# Altium schematic symbol library UWRT_Schematic_Library_2020.SchLib: 205 symbols (part 2 of 4)
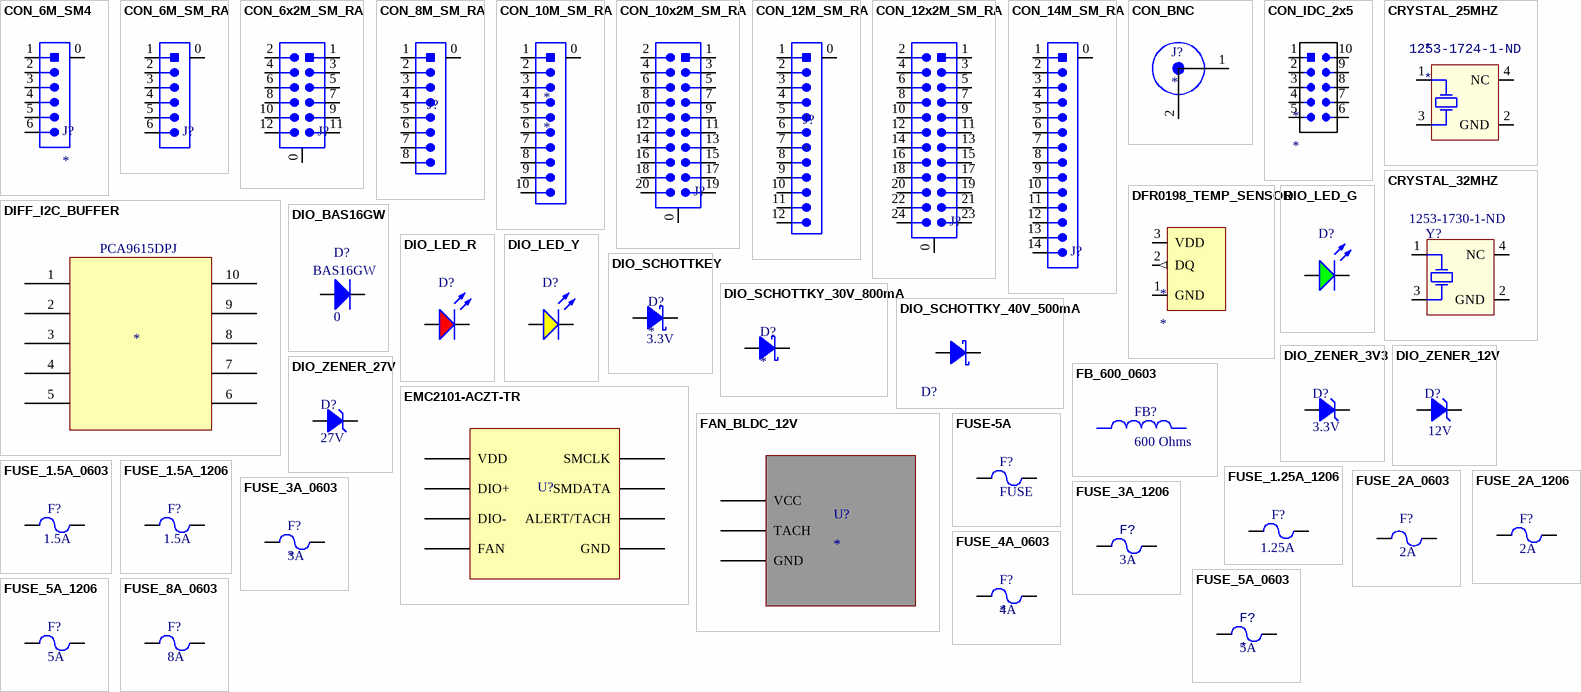
[diagram p6: symbols CON_6M_SM4 to FUSE_8A_0603]

## DIO_SCHOTTKY_40V_500mA
designator D?, comment B0540W-7-F  (value not drawn)
DIODE SCHOTTKY 40V 500MA SOD123; Manufacturer: Diodes Inc.; Manufacturer 1: Diodes Incorporated; Capacitance: 170pF; Max Junction Temp: +150°C; Value: 170pF; Peak Reverse Current: 20uA; Automotive Grade: Grade 0; Max Surge Forward Current: 5.5A; Standoff Height: 0mm; Forward Current: 0.5A; Digikey Description: DIODE SCHOTTKY 40V 500MA SOD123; ComponentLink2Description: Datasheet; Package: SOD123; Height: 1.45mm; Temperature Range High: +150°C; Mouser Description: Schottky Diodes & Rectifiers 40V 410mW; Category: Diode; Temperature: -65°C to +150°C; Reverse Voltage: 40V; Manufacturer Part Number: B0540W-7-F; Footprint Url: https://www.diodes.com/assets/Package-Files/SOD123.pdf; Octopart: https://octopart.com/b0540w-7-f-diodes+inc.-325656; Device Class L1: Discrete Semiconductors; Automotive: Yes; ComponentLink2URL: https://www.diodes.com/assets/Datasheets/ds30138.pdf; Lead Free: Yes; Temperature Range Low: -65°C; Device Class L3: Schottky Diodes; RoHS: TRUE; Max Repetitive Reverse Voltage: 40V; Device Class L2: Diodes; Supplier 1: Digi-Key; Supplier Part Number 1: B0540W-FDITR-ND; Manufacturer Part Number 1: B0540W-7-F
footprint SOD123
pins: 1, 2

## DIO_ZENER_3V3
designator D?  Working Voltage: 3.3V  (hidden comment: *)
DIODE ZENER 3.3V 200mW SOD323F; Manufacturer 1: ON Semiconductor / Fairchild; Manufacturer Part Number 1: MM3Z3V3B; Tolerance: 2%; Forward Voltage: 1V; Supplier Part Number 1: MM3Z3V3BCT-ND; Supplier 1: Digi-Key; Mount: Surface Mount; Package/Case: SOD323F
footprint DIO_ZENER_3V3 (DIODE ZENER 3.3V 200MW SOD323F)
pins: 1 Anode, 2 Cathode

## DIO_ZENER_12V
designator D?  Voltage Rating (DC): 12V  (hidden comment: *)
DIODE ZENER 12V 300mW SMD SOD-323; Manufacturer 1: ON Semiconductor; Manufacturer Part Number 1: MM3Z12VST1G; Material: Plastic; Impedance: 25R; Max Reverse Leakage Current: 100nA; Test Current: 5mA; Element Configuration: Single; ESD Protection: Yes; Max Power Dissipation: 200mW; Tolerance: 2%; Zener Current: 10mA; Forward Voltage: 900mV; Supplier 1: Digi-Key; Stock 1: 20367; Pricing 1: 1=0.13000, 10=0.11800, 25=0.11240, 100=0.04950, 250=0.04752, 500=0.03888, 1000=0.02700 (USD); RoHS: Yes; Case/Package: SOD-323-2; Number of Pins: 2; Contact Plating: Tin,Matte; Min Operating Temperature: -65°C; Max Operating Temperature: 150°C; Zener Voltage: 12V; Packaging: Tape and Reel; Package Quantity: 3000; Power Dissipation: 200mW; Voltage Tolerance: 2%; Working Voltage: 12V; Peak Reverse Current: 100nA; Power Rating: 200mW; Length: 1.8mm; Height: 1mm; Width: 1.35mm; Radiation Hardening: No; Lead Free: Lead Free; REACH SVHC: No SVHC; ComponentLink1URL: https://datasheet.ciiva.com/16292/mm3z12vst1g-16292931.pdf?src-supplier=Future+Electronics; ComponentLink1Description: https://datasheet.ciiva.com/16292/mm3z12vst1g-16292931.pdf?src-supplier=Future+Electronics; ComponentLink2URL: https://datasheet.ciiva.com/30478/0900766b8127c8bd-30478408.pdf?src-supplier=RSComponents; ComponentLink2Description: https://datasheet.ciiva.com/30478/0900766b8127c8bd-30478408.pdf?src-supplier=RSComponents; ComponentLink3URL: https://datasheet.ciiva.com/22626/1878251-22626885.pdf?src-supplier=Element14; ComponentLink3Description: https://datasheet.ciiva.com/22626/1878251-22626885.pdf?src-supplier=Element14; ComponentLink4URL: https://datasheet.ciiva.com/894/mm3z2v4st1-d-894651.pdf?src-supplier=Digi-Key; ComponentLink4Description: https://datasheet.ciiva.com/894/mm3z2v4st1-d-894651.pdf?src-supplier=Digi-Key; ComponentLink5URL: https://datasheet.ciiva.com/894/mm3z2v4st1-d-894649.pdf?src-supplier=Digi-Key; ComponentLink5Description: https://datasheet.ciiva.com/894/mm3z2v4st1-d-894649.pdf?src-supplier=Digi-Key; ComponentLink6URL: https://datasheet.ciiva.com/25928/mm3z2v4st1-d-25928489.pdf?src-supplier=Avnet+Europe; ComponentLink6Description: https://datasheet.ciiva.com/25928/mm3z2v4st1-d-25928489.pdf?src-supplier=Avnet+Europe; ComponentLink7URL: https://datasheet.ciiva.com/894/mm3z2v4st1-d-894650.pdf?src-supplier=Digi-Key; ComponentLink7Description: https://datasheet.ciiva.com/894/mm3z2v4st1-d-894650.pdf?src-supplier=Digi-Key; Supplier Part Number 1: MM3Z12VST1GOSCT-ND
footprint SOD-323
pins: 1 Anode, 2 Cathode

## DIO_ZENER_27V
designator D?  Working Voltage: 27V  (hidden comment: *)
DIODE ZENER 27V 250MW SOT23; Manufacturer 1: Nexperia USA Inc.; Manufacturer Part Number 1: BZX84-C27,215; Tolerance: 5%; Forward Voltage: 0.9V; Supplier Part Number 1: 1727-5026-2-ND; Supplier 1: Digi-Key; Mount: Surface Mount; Package/Case: SOT-23-3
footprint SOT23-3 (SOT23, 3-Leads, Body 2.90x2.30mm, Pitch 0.95mm, IPC Medium Density)
pins: 1 Anode, 3 Cathode

## EMC2101-ACZT-TR
designator U?
SMBUS FAN CONTROL WITH TEMP MONITORING; Manufacturer 1: Microchip Technology; Manufacturer Part Number 1: EMC2101-ACZT-TR; Supplier Part Number 1: EMC2101-ACZT-CT-ND; Mount: Surface Mount; Supplier 1: Digi-Key
footprint SOIC-8_SG
pins: 1 VDD, 2 DIO+, 3 DIO-, 4 FAN, 5 GND, 6 ALERT/TACH, 7 SMDATA, 8 SMCLK

## FAN_BLDC_12V
designator U?
GENERIC 12V BLDC FAN WITH INTEGRATED DRIVER AND TACHOMETER OUTPUT
pins: 1 VCC, 2 TACH, 3 GND

## FB_600_0603
designator FB?, comment 600 Ohms
FERRITE BEAD 600 OHM 0603 1LN; Manufacturer Part Number 1: BK1608HW601-T; Manufacturer 1: Taiyo Yuden; Tolerance: 25%; Value: 600R; Supplier Part Number 1: 587-1879-1-ND; Supplier 1: Digi-Key; Size/Dimension: 0.063" L x 0.032" W (1.60mm x 0.80mm); Case/Package: 0603; Mount: Surface Mount
footprint FB_600_0603 (FERRITE BEAD 600 OHM 0603 1LN)

## FUSE-5A
designator F?, comment FUSE
FUSE HOLDER RADIAL 250V 6.3A PCB
footprint FUSE (FUSE HOLDER RADIAL 250V 6.3A PCB)
pins: 1, 2

## FUSE_1.5A_0603
designator F?  Current Rating: 1.5A  (hidden comment: *)
FUSE SMD 1.5A 32V; Manufacturer 1: Littelfuse; Manufacturer Part Number 1: 046701.5NRHF; Response Time: Fast Blow; ComponentLink1URL: https://datasheet.ciiva.com/26890/getdatasheetpartid-721713-26890390.pdf?src-supplier=Verical; ComponentLink1Description: https://datasheet.ciiva.com/26890/getdatasheetpartid-721713-26890390.pdf?src-supplier=Verical; ComponentLink2URL: https://datasheet.ciiva.com/7464/467-7464069.pdf?src-supplier=Digi-Key; ComponentLink2Description: https://datasheet.ciiva.com/7464/467-7464069.pdf?src-supplier=Digi-Key; ComponentLink3URL: https://datasheet.ciiva.com/7464/467-7464072.pdf?src-supplier=Digi-Key; ComponentLink3Description: https://datasheet.ciiva.com/7464/467-7464072.pdf?src-supplier=Digi-Key; Mount: Surface Mount; Voltage Rating (AC): 32V; Voltage Rating (DC): 32V; Supplier 1: Digi-Key; Supplier Part Number 1: F5702CT-ND; Supplier Packaging 1: Cut Tape
footprint FUSE_0603 (Chip Fuse, Body 1.6x0.81mm)
pins: 1, 2

## FUSE_1.5A_1206
designator F?  Current Rating: 1.5A  (hidden comment: *)
FUSE SMD 1.5A 63V; Manufacturer 1: Littelfuse; Manufacturer Part Number 1: 046601.5NR; Fuse Type: Board Mount (Cartridge Style Excluded); DC Cold Resistance: 31mR; Power Dissipation: 157.5mW; Approvals: UL,CSA; Supplier 1: Digi-Key; Stock 1: 8989; Pricing 1: 1=0.84000, 5=0.81200, 10=0.78700, 50=0.66180, 100=0.54930, 250=0.49940, 500=0.42450, 1000=0.37455 (USD); RoHS: Yes; Mount: Surface Mount; Case/Package: 1206; Case Code (Imperial): 1206; Case Code (Metric): 3216; Housing Material: Ceramic; Min Operating Temperature: -55°C; Max Operating Temperature: 90°C; Package Quantity: 5000; Voltage Rating (AC): 63V; Voltage Rating (DC): 63V; Packaging: Cut Tape; Current: 1.5A; Length: 3.18mm; Height: 0.023inch; Width: 0.06inch; Depth: 1.52mm; ComponentLink1URL: https://datasheet.ciiva.com/7444/littelfuse-fuse-466-7444359.pdf?src-supplier=Digi-Key; ComponentLink1Description: https://datasheet.ciiva.com/7444/littelfuse-fuse-466-7444359.pdf?src-supplier=Digi-Key; ComponentLink2URL: https://datasheet.ciiva.com/7444/littelfuse-fuse-466-7444363.pdf?src-supplier=Digi-Key; ComponentLink2Description: https://datasheet.ciiva.com/7444/littelfuse-fuse-466-7444363.pdf?src-supplier=Digi-Key; ComponentLink3URL: https://datasheet.ciiva.com/7444/littelfuse-fuse-466-7444350.pdf?src-supplier=Digi-Key; ComponentLink3Description: https://datasheet.ciiva.com/7444/littelfuse-fuse-466-7444350.pdf?src-supplier=Digi-Key; Supplier Part Number 1: F1462CT-ND
footprint FUSE_1206
pins: 1, 2

## FUSE_1.25A_1206
designator F?  Current Rating: 1.25A  (hidden comment: *)
FUSE SMD 1.25A 63V; Manufacturer 1: Littelfuse; Manufacturer Part Number 1: 04661.25NRHF; Fuse Type: Board Mount (Cartridge Style Excluded); DC Cold Resistance: 59mR; Approvals: UL,CSA; Supplier 1: Digi-Key; Stock 1: 5020; Pricing 1: 1=0.84000, 5=0.81200, 10=0.78700, 50=0.66180, 100=0.54930, 250=0.49940, 500=0.42450, 1000=0.37455 (USD); RoHS: No; Mount: Surface Mount; Case/Package: 1206; Case Code (Imperial): 1206; Case Code (Metric): 3216; Min Operating Temperature: -55°C; Max Operating Temperature: 90°C; Packaging: Tape and Reel; Voltage Rating (AC): 63V; Voltage Rating (DC): 63V; ComponentLink1URL: https://www.littelfuse.com/~/media/electronics/datasheets/fuses/littelfuse_fuse_466_datasheet.pdf.pdf?src-supplier=Digi-Key; ComponentLink1Description: https://www.littelfuse.com/~/media/electronics/datasheets/fuses/littelfuse_fuse_466_datasheet.pdf.pdf?src-supplier=Digi-Key; Supplier Part Number 1: F11418CT-ND
footprint FUSE_1206
pins: 1, 2

## FUSE_2A_0603
designator F?  Current Rating: 2A  (hidden comment: *)
FUSE SMD 2A 32V; Manufacturer Part Number 1: 0467002.NRHF; Manufacturer 1: Littelfuse; Response Time: Fast Blow; ComponentLink1URL: https://datasheet.ciiva.com/303/467-303400.pdf?src-supplier=Digi-Key; ComponentLink1Description: https://datasheet.ciiva.com/303/467-303400.pdf?src-supplier=Digi-Key; ComponentLink2URL: http://datasheet.octopart.com/0467002.NRHF-Littelfuse-datasheet-32023482.pdf?src-supplier=Future+Electronics; ComponentLink2Description: http://datasheet.octopart.com/0467002.NRHF-Littelfuse-datasheet-32023482.pdf?src-supplier=Future+Electronics; ComponentLink3URL: http://datasheet.octopart.com/0467002.NRHF-Littelfuse-datasheet-136509808.pdf?src-supplier=Future+Electronics; ComponentLink3Description: http://datasheet.octopart.com/0467002.NRHF-Littelfuse-datasheet-136509808.pdf?src-supplier=Future+Electronics; Mount: Surface Mount; Voltage Rating (AC): 32V; Voltage Rating (DC): 32V; Supplier 1: Digi-Key; Supplier Part Number 1: F7132CT-ND; Supplier Packaging 1: Cut Tape
footprint FUSE_0603 (Chip Fuse, Body 1.6x0.81mm)
pins: 1, 2

## FUSE_2A_1206
designator F?  Current Rating: 2A  (hidden comment: *)
FUSE SMD 2A 63V; Manufacturer 1: Littelfuse; Manufacturer Part Number 1: 0466002.NRHF; Fuse Type: Board Mount (Cartridge Style Excluded); DC Cold Resistance: 31mR; Power Dissipation: 157.5mW; Approvals: UL,CSA; Supplier 1: Digi-Key; Stock 1: 8989; Pricing 1: 1=0.84000, 5=0.81200, 10=0.78700, 50=0.66180, 100=0.54930, 250=0.49940, 500=0.42450, 1000=0.37455 (USD); RoHS: Yes; Mount: Surface Mount; Case/Package: 1206; Case Code (Imperial): 1206; Case Code (Metric): 3216; Housing Material: Ceramic; Min Operating Temperature: -55°C; Max Operating Temperature: 90°C; Package Quantity: 5000; Voltage Rating (AC): 63V; Voltage Rating (DC): 63V; Packaging: Tape and Reel; Current: 2A; Length: 3.18mm; Height: 0.023inch; Width: 0.06inch; Depth: 1.52mm; ComponentLink1URL: https://datasheet.ciiva.com/7444/littelfuse-fuse-466-7444359.pdf?src-supplier=Digi-Key; ComponentLink1Description: https://datasheet.ciiva.com/7444/littelfuse-fuse-466-7444359.pdf?src-supplier=Digi-Key; ComponentLink2URL: https://datasheet.ciiva.com/7444/littelfuse-fuse-466-7444363.pdf?src-supplier=Digi-Key; ComponentLink2Description: https://datasheet.ciiva.com/7444/littelfuse-fuse-466-7444363.pdf?src-supplier=Digi-Key; ComponentLink3URL: https://datasheet.ciiva.com/7444/littelfuse-fuse-466-7444350.pdf?src-supplier=Digi-Key; ComponentLink3Description: https://datasheet.ciiva.com/7444/littelfuse-fuse-466-7444350.pdf?src-supplier=Digi-Key; Supplier Part Number 1: F5696CT-ND
footprint FUSE_1206
pins: 1, 2

## FUSE_3A_0603
designator F?
FUSE SMD 3A 32V 0603; Manufacturer Part Number 1: 0467003.NR; Manufacturer 1: Littelfuse; Supplier Part Number 1: F1399CT-ND; Supplier 1: Digi-Key; Case/Package: 0603; Size/Dimensions: 0.063" L x 0.032" W x 0.012" H (1.60mm x 0.81mm x 0.31mm); Mount: Surface Mount; Voltage Rating (AC): 32V; Voltage Rating (DC): 32V; Current Rating: 3A
footprint FUSE_0603 (Chip Fuse, Body 1.6x0.81mm)
pins: 1, 2

## FUSE_3A_1206
designator F?  Current Rating: 3A  (hidden comment: *)
FUSE SMD 3A 32V 1206; Manufacturer 1: Littelfuse; Manufacturer Part Number 1: 0466003.NR; DC Cold Resistance: 0.02R; Power Dissipation: 228mW; Fuse Type: Board Mount (Cartridge Style Excluded); Approvals: UL,CSA; Response Time: Fast Blow; Supplier 1: Digi-Key; Stock 1: 10729; Pricing 1: 1=1.20000, 5=1.16600, 10=1.09100, 50=0.90280, 100=0.75240, 250=0.73360, 500=0.62074, 1000=0.54549 (USD); RoHS: Yes; Mount: Surface Mount; Case/Package: 1206; Number of Pins: 2; Case Code (Metric): 3216; Case Code (Imperial): 1206; Min Operating Temperature: -55°C; Max Operating Temperature: 90°C; Voltage Rating (AC): 32V; Voltage Rating (DC): 32V; Packaging: Cut Tape; Package Quantity: 5000; Composition: Thin Film; Resistance: 0.02R; Fuse Current: 3A; Working Voltage: 32V; Length: 3.18mm; Height: 0.023inch; Width: 1.52mm; Radiation Hardening: No; REACH SVHC: Unknown; Lead Free: Lead Free; Supplier Part Number 1: F1458CT-ND
footprint FUSE_1206
pins: 1, 2

## FUSE_4A_0603
designator F?
FUSE SMD 4A 32V 0603; Manufacturer 1: Littelfuse; Manufacturer Part Number 1: 0467004.NR; Supplier 1: Digi-Key; Supplier Part Number 1: F1401CT-ND; Case/Package: 0603; Voltage Rating (AC): 32V; Voltage Rating (DC): 32V; Size/Dimensions: 0.063" L x 0.032" W x 0.012" H (1.60mm x 0.81mm x 0.31mm); Current Rating: 4A; Mount: Surface Mount
footprint FUSE_0603 (Chip Fuse, Body 1.6x0.81mm)
pins: 1, 2

## FUSE_5A_0603
designator F?  Current Rating: 5A
FUSE SMD 5A 32V; Manufacturer 1: Littelfuse; Manufacturer Part Number 1: 0467005.NR; DC Cold Resistance: 8.9mR; Power Dissipation: 363.5mW; Fuse Type: Board Mount (Cartridge Style Excluded); Resistance: 9mR; Approvals: UL,CSA; Response Time: Fast Blow; Supplier 1: Digi-Key; Stock 1: 10729; Pricing 1: 1=1.20000, 5=1.16600, 10=1.09100, 50=0.90280, 100=0.75240, 250=0.73360, 500=0.62074, 1000=0.54549 (USD); RoHS: Yes; Mount: Surface Mount; Case/Package: 0603; Number of Pins: 2; Case Code (Metric): 1608; Case Code (Imperial): 0603; Min Operating Temperature: -55°C; Max Operating Temperature: 90°C; Voltage Rating (AC): 32V; Voltage Rating (DC): 32V; Packaging: Tape and Reel; Package Quantity: 5000; Composition: Thin Film; Fuse Current: 5A; Working Voltage: 32V; Length: 1.6mm; Height: 0.012inch; Width: 0.813mm; Depth: 0.81mm; Radiation Hardening: No; REACH SVHC: Unknown; Lead Free: Lead Free; ComponentLink1URL: https://datasheet.ciiva.com/26923/getdatasheetpartid-763340-26923403.pdf?src-supplier=Verical; ComponentLink1Description: https://datasheet.ciiva.com/26923/getdatasheetpartid-763340-26923403.pdf?src-supplier=Verical; ComponentLink2URL: https://datasheet.ciiva.com/1682/48494-1682052.pdf?src-supplier=Farnell; ComponentLink2Description: https://datasheet.ciiva.com/1682/48494-1682052.pdf?src-supplier=Farnell; ComponentLink3URL: https://datasheet.ciiva.com/299/467-299366.pdf?src-supplier=Digi-Key; ComponentLink3Description: https://datasheet.ciiva.com/299/467-299366.pdf?src-supplier=Digi-Key; ComponentLink4URL: https://datasheet.ciiva.com/1549/48494-1549727.pdf?src-supplier=Element14; ComponentLink4Description: https://datasheet.ciiva.com/1549/48494-1549727.pdf?src-supplier=Element14; ComponentLink5URL: https://datasheet.ciiva.com/299/467-299367.pdf?src-supplier=Digi-Key; ComponentLink5Description: https://datasheet.ciiva.com/299/467-299367.pdf?src-supplier=Digi-Key; ComponentLink6URL: https://datasheet.ciiva.com/299/467-299368.pdf?src-supplier=Digi-Key; ComponentLink6Description: https://datasheet.ciiva.com/299/467-299368.pdf?src-supplier=Digi-Key; ComponentLink7URL: https://datasheet.ciiva.com/16291/467-16291097.pdf?src-supplier=Future+Electronics; ComponentLink7Description: https://datasheet.ciiva.com/16291/467-16291097.pdf?src-supplier=Future+Electronics; Supplier Part Number 1: F1402CT-ND
footprint FUSE_0603 (Chip Fuse, Body 1.6x0.81mm)
pins: 1, 2

## FUSE_5A_1206
designator F?  Current Rating: 5A  (hidden comment: *)
FUSE SMD 5A 63V; Manufacturer 1: Littelfuse; Manufacturer Part Number 1: 0466005.NRHF; Voltage Rating (AC): 32V; Fuse Type: Board Mount (Cartridge Style Excluded); DC Cold Resistance: 31mR; Power Dissipation: 157.5mW; Approvals: UL,CSA; Supplier 1: Digi-Key; Stock 1: 8989; Pricing 1: 1=0.84000, 5=0.81200, 10=0.78700, 50=0.66180, 100=0.54930, 250=0.49940, 500=0.42450, 1000=0.37455 (USD); RoHS: Yes; Mount: Surface Mount; Case/Package: 1206; Case Code (Imperial): 1206; Case Code (Metric): 3216; Housing Material: Ceramic; Min Operating Temperature: -55°C; Max Operating Temperature: 90°C; Package Quantity: 5000; Voltage Rating (DC): 32V; Packaging: Cut Tape; Current: 5A; Length: 3.18mm; Height: 0.023inch; Width: 0.06inch; Depth: 1.52mm; ComponentLink1URL: https://datasheet.ciiva.com/7444/littelfuse-fuse-466-7444359.pdf?src-supplier=Digi-Key; ComponentLink1Description: https://datasheet.ciiva.com/7444/littelfuse-fuse-466-7444359.pdf?src-supplier=Digi-Key; ComponentLink2URL: https://datasheet.ciiva.com/7444/littelfuse-fuse-466-7444363.pdf?src-supplier=Digi-Key; ComponentLink2Description: https://datasheet.ciiva.com/7444/littelfuse-fuse-466-7444363.pdf?src-supplier=Digi-Key; ComponentLink3URL: https://datasheet.ciiva.com/7444/littelfuse-fuse-466-7444350.pdf?src-supplier=Digi-Key; ComponentLink3Description: https://datasheet.ciiva.com/7444/littelfuse-fuse-466-7444350.pdf?src-supplier=Digi-Key; Supplier Part Number 1: F6019CT-ND
footprint FUSE_1206
pins: 1, 2

## FUSE_8A_0603
designator F?  Current Rating: 8A  (hidden comment: *)
FUSE SMD 8A 63V; Manufacturer Part Number 1: 0686F8000-01; Manufacturer 1: Bel; Voltage Rating (AC): 32V; Response Time: Fast Blow; Supplier 1: Digi-Key; Mount: Surface mount; Voltage Rating (DC): 63V; Supplier Packaging 1: Cut Tape; Supplier Part Number 1: 507-2160-1-ND
footprint FUSE_0603 (Chip Fuse, Body 1.6x0.81mm)
pins: 1, 2

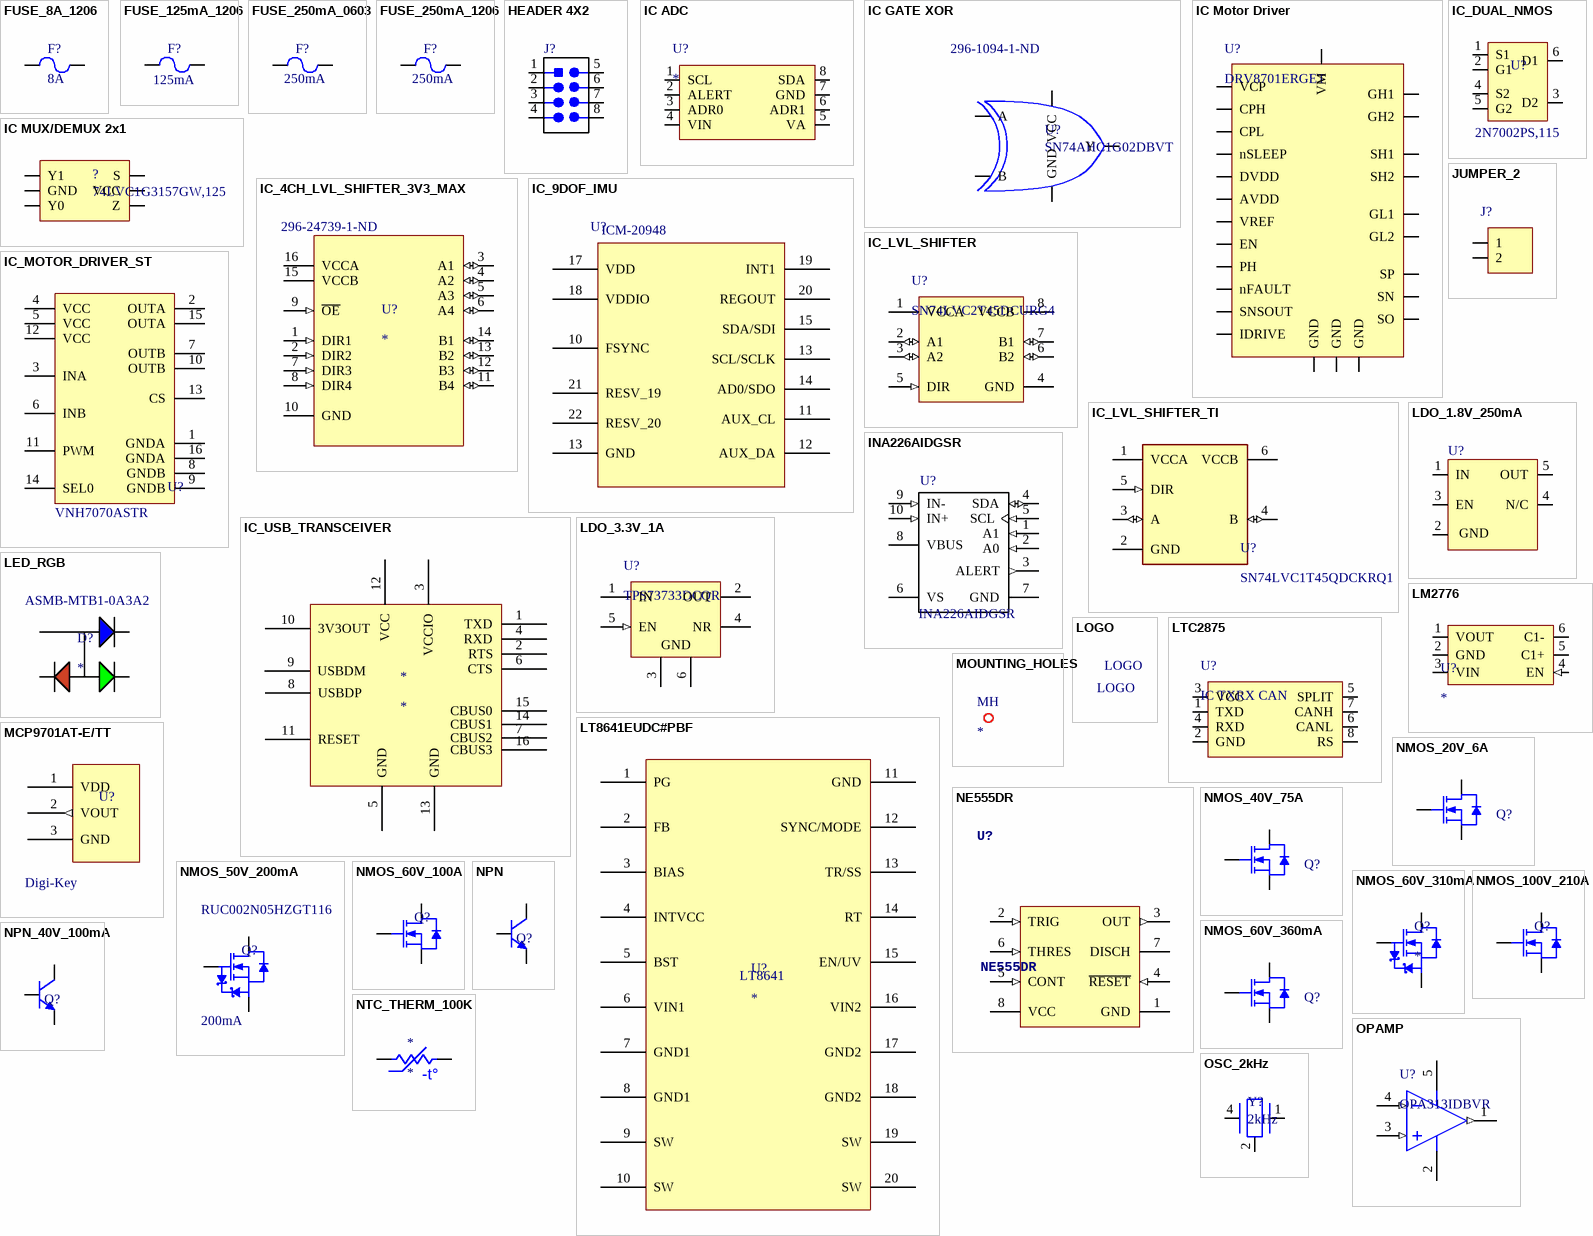
[diagram p2: symbols FUSE_8A_1206 to OSC_2kHz]

## FUSE_8A_1206
designator F?  Current Rating: 8A  (hidden comment: *)
FUSE SMD 8A 24V; Manufacturer 1: Littelfuse; Manufacturer Part Number 1: 0469008.WR; Fuse Type: Board Mount (Cartridge Style Excluded); DC Cold Resistance: 31mR; Power Dissipation: 157.5mW; Approvals: UL,CSA; Supplier 1: Digi-Key; Stock 1: 8989; Pricing 1: 1=0.84000, 5=0.81200, 10=0.78700, 50=0.66180, 100=0.54930, 250=0.49940, 500=0.42450, 1000=0.37455 (USD); RoHS: Yes; Mount: Surface Mount; Case/Package: 1206; Case Code (Imperial): 1206; Case Code (Metric): 3216; Housing Material: Ceramic; Min Operating Temperature: -55°C; Max Operating Temperature: 90°C; Package Quantity: 5000; Voltage Rating (AC): 24V; Voltage Rating (DC): 24V; Packaging: Cut Tape; Current: 8A; Length: 3.18mm; Height: 0.023inch; Width: 0.06inch; Depth: 1.52mm; ComponentLink1URL: https://datasheet.ciiva.com/7444/littelfuse-fuse-466-7444359.pdf?src-supplier=Digi-Key; ComponentLink1Description: https://datasheet.ciiva.com/7444/littelfuse-fuse-466-7444359.pdf?src-supplier=Digi-Key; ComponentLink2URL: https://datasheet.ciiva.com/7444/littelfuse-fuse-466-7444363.pdf?src-supplier=Digi-Key; ComponentLink2Description: https://datasheet.ciiva.com/7444/littelfuse-fuse-466-7444363.pdf?src-supplier=Digi-Key; ComponentLink3URL: https://datasheet.ciiva.com/7444/littelfuse-fuse-466-7444350.pdf?src-supplier=Digi-Key; ComponentLink3Description: https://datasheet.ciiva.com/7444/littelfuse-fuse-466-7444350.pdf?src-supplier=Digi-Key; Supplier Part Number 1: F3542CT-ND
footprint FUSE_1206
pins: 1, 2

## FUSE_125mA_1206
designator F?  Current Rating: 125mA  (hidden comment: *)
FUSE SMD 125mA 125V; Manufacturer 1: Littelfuse; Manufacturer Part Number 1: 0466.125NRHF; DC Cold Resistance: 4R; Fuse Type: Board Mount (Cartridge Style Excluded); Power Dissipation: 69.1mW; Approvals: UL,CSA; Supplier 1: Digi-Key; Stock 1: 10036; Pricing 1: 1=0.84000, 5=0.81200, 10=0.78700, 50=0.66180, 100=0.54930, 250=0.49940, 500=0.42450, 1000=0.37455 (USD); RoHS: Yes; Mount: Surface Mount; Case/Package: 1206; Case Code (Metric): 3216; Case Code (Imperial): 1206; Housing Material: Ceramic; Min Operating Temperature: -55°C; Max Operating Temperature: 90°C; Packaging: Tape and Reel; Voltage Rating (AC): 125V; Voltage Rating (DC): 125V; Working Voltage: 125V; Package Quantity: 5000; Length: 3.18mm; Height: 0.023inch; Depth: 1.52mm; Width: 0.06inch; Lead Free: Lead Free; ComponentLink1URL: https://datasheet.ciiva.com/303/littelfuse-fuse-466-303205.pdf?src-supplier=Digi-Key; ComponentLink1Description: https://datasheet.ciiva.com/303/littelfuse-fuse-466-303205.pdf?src-supplier=Digi-Key; Supplier Part Number 1: F6016CT-ND
footprint FUSE_1206
pins: 1, 2

## FUSE_250mA_0603
designator F?  Current Rating: 250mA  (hidden comment: *)
FUSE SMD 250mA 32V; Manufacturer 1: Littelfuse; Manufacturer Part Number 1: 0467.250NRHF; Response Time: Fast Blow; ComponentLink1URL: https://datasheet.ciiva.com/303/467-303396.pdf?src-supplier=Digi-Key; ComponentLink1Description: https://datasheet.ciiva.com/303/467-303396.pdf?src-supplier=Digi-Key; ComponentLink2URL: https://datasheet.ciiva.com/18652/littelfuse-fuse-467-datasheet-pdf-18652490.pdf?src-supplier=Digi-Key; ComponentLink2Description: https://datasheet.ciiva.com/18652/littelfuse-fuse-467-datasheet-pdf-18652490.pdf?src-supplier=Digi-Key; ComponentLink3URL: https://datasheet.ciiva.com/18652/littelfuse-fuse-467-datasheet-pdf-18652491.pdf?src-supplier=Digi-Key; ComponentLink3Description: https://datasheet.ciiva.com/18652/littelfuse-fuse-467-datasheet-pdf-18652491.pdf?src-supplier=Digi-Key; ComponentLink4URL: https://datasheet.ciiva.com/18652/littelfuse-fuse-467-datasheet-pdf-18652492.pdf?src-supplier=Digi-Key; ComponentLink4Description: https://datasheet.ciiva.com/18652/littelfuse-fuse-467-datasheet-pdf-18652492.pdf?src-supplier=Digi-Key; Voltage Rating (AC): 32V; Voltage Rating (DC): 32V; Supplier 1: Digi-Key; Supplier Packaging 1: Cut Tape; Mount: Surface Mount; Supplier Part Number 1: F6020CT-ND
footprint FUSE_0603 (Chip Fuse, Body 1.6x0.81mm)
pins: 1, 2

## FUSE_250mA_1206
designator F?  Current Rating: 250mA  (hidden comment: *)
FUSE SMD 250mA 125V; Manufacturer 1: Littelfuse; Manufacturer Part Number 1: 0466.250NR; Fuse Type: Board Mount (Cartridge Style Excluded); DC Cold Resistance: 31mR; Power Dissipation: 157.5mW; Approvals: UL,CSA; Supplier 1: Digi-Key; Stock 1: 8989; Pricing 1: 1=0.84000, 5=0.81200, 10=0.78700, 50=0.66180, 100=0.54930, 250=0.49940, 500=0.42450, 1000=0.37455 (USD); RoHS: Yes; Mount: Surface Mount; Case/Package: 1206; Case Code (Imperial): 1206; Case Code (Metric): 3216; Housing Material: Ceramic; Min Operating Temperature: -55°C; Max Operating Temperature: 90°C; Package Quantity: 5000; Voltage Rating (AC): 125V; Voltage Rating (DC): 125V; Packaging: Cut Tape; Current: 250mA; Length: 3.18mm; Height: 0.023inch; Width: 0.06inch; Depth: 1.52mm; ComponentLink1URL: https://datasheet.ciiva.com/7444/littelfuse-fuse-466-7444359.pdf?src-supplier=Digi-Key; ComponentLink1Description: https://datasheet.ciiva.com/7444/littelfuse-fuse-466-7444359.pdf?src-supplier=Digi-Key; ComponentLink2URL: https://datasheet.ciiva.com/7444/littelfuse-fuse-466-7444363.pdf?src-supplier=Digi-Key; ComponentLink2Description: https://datasheet.ciiva.com/7444/littelfuse-fuse-466-7444363.pdf?src-supplier=Digi-Key; ComponentLink3URL: https://datasheet.ciiva.com/7444/littelfuse-fuse-466-7444350.pdf?src-supplier=Digi-Key; ComponentLink3Description: https://datasheet.ciiva.com/7444/littelfuse-fuse-466-7444350.pdf?src-supplier=Digi-Key; Supplier Part Number 1: F1452CT-ND
footprint FUSE_1206
pins: 1, 2

## HEADER 4X2
designator J?
CONN HEADER VERT 8POS 2.54MM; Manufacturer Part Number 1: M20-9980445; Manufacturer 1: Harwin Inc.; Supplier Part Number 1: 952-2122-ND; Supplier 1: Digi-Key; Mount: Through Hole
signal-integrity model Connector
footprint HEADER_2X4
footprint HEADER_2X4
pins: 1 VCC, 2, 3, 4, 5 GND, 6 2, 7 3, 8 4

## IC ADC
designator U?
IC ADC 8BIT I2C 188KSPS; Manufacturer 1: Texas Instruments; Manufacturer Part Number 1: ADC081C021CIMM/NOPB; Package: 8-TSSOP, 8-MSOP (0.118", 3.00mm Width); Supplier Part Number 1: ADC081C021CIMM/NOPBCT-ND; Supplier 1: Digi-Key; Mount: Surface Mount
pins: 1 SCL, 2 ALERT, 3 ADR0, 4 VIN, 5 VA, 6 ADR1, 7 GND, 8 SDA

## IC GATE XOR
designator U?, comment SN74AHC1G02DBVT  Supplier Part Number 1: 296-1094-1-ND
IC GATE NOR 1CH 2-INP SOT23-5; Manufacturer 1: Texas Instruments; Max Supply Voltage: 5.5V; Min Supply Voltage: 2V; Quiescent Current: 1uA; Propagation Delay: 7.5ns; Number of Outputs: 1; Number of Inputs: 2; Low Level Output Current: 8mA; High Level Output Current: -8mA; Turn-On Delay Time: 8.5ns; Manufacturer Part Number 1: SN74AHC1G02DBVT; Mount: Surface Mount; Case/Package: SOT-23; Number of Pins: 5; Weight: 0.000557oz; Min Operating Temperature: -40°C; Max Operating Temperature: 125°C; Logic Function: NOR; Packaging: Tape and Reel; Package Quantity: 250; Number of Gates: 1; Number of Input Lines: 2; Number of Output Lines: 1; Number of Circuits: 1; Number of Elements: 1; Number of Bits: 1; Output Current: 8mA; Max Output Current: 8mA; Termination: SMD/SMT; Radiation Hardening: No; Lead Free: Lead Free; REACH SVHC: No SVHC; ComponentLink1URL: http://www.ti.com/lit/ds/symlink/sn74ahc1g02.pdf?src-supplier=Digi-Key; ComponentLink1Description: http://www.ti.com/lit/ds/symlink/sn74ahc1g02.pdf?src-supplier=Digi-Key; ComponentLink2URL: http://focus.ti.com/lit/ds/symlink/sn74ahc1g02.pdf?src-supplier=Avnet+Europe; ComponentLink2Description: http://focus.ti.com/lit/ds/symlink/sn74ahc1g02.pdf?src-supplier=Avnet+Europe; ComponentLink3URL: http://www.farnell.com/datasheets/1786933.pdf?src-supplier=Element14; ComponentLink3Description: http://www.farnell.com/datasheets/1786933.pdf?src-supplier=Element14; Supplier 1: Digi-Key
footprint SOT23-5
pins: 1 A, 2 B, 3 GND, 4 Y, 5 VCC

## IC Motor Driver
designator U?, comment DRV8701ERGET
IC MOTOR DRIVER 0V-5.5V 24VQFN; Manufacturer 1: Texas Instruments; Interface: Parallel; Supplier 1: Digi-Key; Manufacturer Part Number 1: DRV8701ERGET; Stock 1: 17098; Pricing 1: 1=2.83, 10=2.541, 100=2.0425 (USD); Mount: Surface Mount; Case/Package: VQFN; Min Operating Temperature: -40°C; Max Operating Temperature: 125°C; Packaging: Tape and Reel; Lead Free: Lead Free; Supplier Part Number 1: 296-42155-1-ND
footprint VFQFPN-24_N (QFN, 24-Leads, Body 4x4mm, Pitch 0.5mm, Thermal Pad 2.5x2.5mm, IPC Medium Density)
pins: 1 VM, 2 VCP, 3 CPH, 4 CPL, 5 GND, 6 VREF, 7 AVDD, 8 DVDD, 9 nFAULT, 10 SNSOUT, 11 SO, 12 IDRIVE, 13 nSLEEP, 14 EN, 15 PH, 16 GND, 17 GH1, 18 SH1, 19 GL1, 20 SN, 21 SP, 22 GL2, 23 SH2, 24 GH2, 25 GND

## IC MUX/DEMUX 2x1
designator ?, comment 74LVC1G3157GW,125
IC MUX/DEMUX 2X1 6TSSOP; Manufacturer 1: NXP Semiconductors; Min Supply Voltage: 1.65V; Max Supply Voltage: 5.5V; Number of Channels: 1; Bandwidth: 300MHz; Propagation Delay: 1ns; Max Power Dissipation: 250mW; On-State Resistance: 15R; Turn-On Delay Time: 8.7ns; Turn-Off Delay Time: 6ns; Operating Supply Current: 40uA; Number of Inputs: 2; Logic Function: Demultiplexer,Demux,Multiplexer,Mux; Supply Type: Single; Supplier 1: Digi-Key; Manufacturer Part Number 1: 74LVC1G3157GW,125; Stock 1: 109219; Pricing 1: 1=0.37, 10=0.276, 100=0.156, 500=0.10332, 1000=0.07921 (USD); Mount: Surface Mount; Case/Package: TSSOP; Number of Pins: 6; Min Operating Temperature: -40°C; Max Operating Temperature: 125°C; Packaging: Tape and Reel; Package Quantity: 3000; Number of Outputs: 1; Power Dissipation: 250mW; Number of Circuits: 1; Radiation Hardening: No; Lead Free: Lead Free; REACH SVHC: No SVHC; ComponentLink1URL: http://www.nxp.com/documents/data_sheet/74LVC1G3157.pdf?src-supplier=Avnet; ComponentLink1Description: http://www.nxp.com/documents/data_sheet/74LVC1G3157.pdf?src-supplier=Avnet; ComponentLink2URL: https://www.verical.com/server-webapp/html/getDatasheet?partID=347929&src-supplier=Verical; ComponentLink2Description: https://www.verical.com/server-webapp/html/getDatasheet?partID=347929&src-supplier=Verical; ComponentLink3URL: http://www.nxp.com/documents/data_sheet/74LVC1G3157.pdf?src-supplier=Avnet+Asia; ComponentLink3Description: http://www.nxp.com/documents/data_sheet/74LVC1G3157.pdf?src-supplier=Avnet+Asia; ComponentLink4URL: http://www.nxp.com/documents/data_sheet/74LVC1G3157.pdf?src-supplier=Digi-Key; ComponentLink4Description: http://www.nxp.com/documents/data_sheet/74LVC1G3157.pdf?src-supplier=Digi-Key; ComponentLink5URL: http://www.nxp.com/documents/data_sheet/74LVC1G3157.pdf?src-supplier=Avnet+Europe; ComponentLink5Description: http://www.nxp.com/documents/data_sheet/74LVC1G3157.pdf?src-supplier=Avnet+Europe; Supplier Part Number 1: 1727-6073-6-ND
footprint IC MUX/DEMUX
pins: 1 Y1, 2 GND, 3 Y0, 4 Z, 5 VCC, 6 S

## IC_4CH_LVL_SHIFTER_3V3_MAX
designator U?  Supplier Part Number 1: 296-24739-1-ND
3v3 Max Voltage Level Translator Bidirectional  4 Channel; MPN: SN74AVC4T774PWR; MF: Texas Instruments; Max Voltage Input: 3.6 V; Package: TSSOP-16 Texas Instruments; Value: *; SnapEDA_Link: https://www.snapeda.com/parts/SN74AVC4T774PWR/Texas%20Instruments/view-part/327589/?ref=snap; Price: None; ComponentLink1Description: New link; ComponentLink1URL: *; Supplier 1: Digi-Key
footprint SOP65P640X120-16N
pins: 1 DIR1 (in), 2 DIR2 (in), 3 A1 (io), 4 A2 (io), 5 A3 (io), 6 A4 (io), 7 DIR3 (in), 8 DIR4 (in), 9 ~{OE} (in), 10 GND, 11 B4 (io), 12 B3 (io), 13 B2 (io), 14 B1 (io), 15 VCCB (power), 16 VCCA (power)

## IC_9DOF_IMU
designator U?  Manufacturer Part Number: ICM-20948  (hidden comment: *)
IMU ACCEL/GYRO/COMPI2C/SPI 24QFN; Manufacturer: TDK InvenSense; Sensor Type: Accelerometer,Gyroscope,Magnetometer; Output Type: SPI,I2C; Supplier 1: Digi-Key; RoHS: No; Category: Inertial Measurement Units (IMUs); Stock 1: 21985; Pricing 1: 1=8.04000, 5=7.09600, 10=6.26700, 25=5.08480, 50=4.49360, 100=4.37530, 500=3.66576, 1000=3.42925 (USD); Mount: Surface Mount; Case/Package: QFN; Min Operating Temperature: -40°C; Max Operating Temperature: 85°C; Packaging: Tape and Reel; ComponentLink1URL: http://www.farnell.com/datasheets/2632662.pdf?src-supplier=Farnell; ComponentLink1Description: http://www.farnell.com/datasheets/2632662.pdf?src-supplier=Farnell; ComponentLink2URL: https://www.invensense.com/wp-content/uploads/2016/06/App-Note-eMD-20x48-User-Guide.pdf?src-supplier=Digi-Key; ComponentLink2Description: https://www.invensense.com/wp-content/uploads/2016/06/App-Note-eMD-20x48-User-Guide.pdf?src-supplier=Digi-Key; ComponentLink3URL: https://www.invensense.com/wp-content/uploads/2016/06/App-Note-eMD-20x48-User-Guide.pdf?src-supplier=Avnet+Europe; ComponentLink3Description: https://www.invensense.com/wp-content/uploads/2016/06/App-Note-eMD-20x48-User-Guide.pdf?src-supplier=Avnet+Europe; ComponentLink4URL: http://www.farnell.com/datasheets/2632662.pdf?src-supplier=Element14; ComponentLink4Description: http://www.farnell.com/datasheets/2632662.pdf?src-supplier=Element14; ComponentLink5URL: https://www.invensense.com/wp-content/uploads/2016/06/App-Note-eMD-20x48-User-Guide.pdf?src-supplier=Avnet; ComponentLink5Description: https://www.invensense.com/wp-content/uploads/2016/06/App-Note-eMD-20x48-User-Guide.pdf?src-supplier=Avnet; ComponentLink6URL: https://www.invensense.com/wp-content/uploads/2016/06/App-Note-eMD-20x48-User-Guide.pdf?src-supplier=Component+Distributors+Inc.; ComponentLink6Description: https://www.invensense.com/wp-content/uploads/2016/06/App-Note-eMD-20x48-User-Guide.pdf?src-supplier=Component+Distributors+Inc.; Supplier Part Number 1: 1428-1123-1-ND
footprint ICM-20948 (24-QFN)
pins: 10 FSYNC, 11 AUX_CL, 12 AUX_DA, 13 SCL/SCLK, 13 GND, 14 AD0/SDO, 15 SDA/SDI, 17 VDD, 18 VDDIO, 19 INT1, 20 REGOUT, 21 RESV_19, 22 RESV_20

## IC_DUAL_NMOS
designator U?  Manufacturer Part Number 1: 2N7002PS,115  (hidden comment: *)
IC DUAL N-CHANNEL MOSFET; Manufacturer 1: Nexperia; Supplier 1: Digi-Key; Stock 1: 79006; Pricing 1: 1=0.40000, 10=0.30000, 25=0.26240, 100=0.14250, 250=0.14176, 500=0.11626, 1000=0.08625 (USD); RoHS: No; ComponentLink1URL: http://www.farnell.com/datasheets/923161.pdf?src-supplier=Farnell; ComponentLink1Description: http://www.farnell.com/datasheets/923161.pdf?src-supplier=Farnell; ComponentLink2URL: https://assets.nexperia.com/documents/data-sheet/2N7002PS.pdf?src-supplier=Digi-Key; ComponentLink2Description: https://assets.nexperia.com/documents/data-sheet/2N7002PS.pdf?src-supplier=Digi-Key; ComponentLink3URL: http://www.farnell.com/datasheets/923161.pdf?src-supplier=Newark; ComponentLink3Description: http://www.farnell.com/datasheets/923161.pdf?src-supplier=Newark; Supplier Part Number 1: 1727-4791-1-ND
footprint SOT-363
pins: 1 S1, 2 G1, 3 D2, 4 S2, 5 G2, 6 D1

## IC_LVL_SHIFTER
designator U?, comment SN74LVC2T45DCURG4
IC BIDIRECTIONAL LEVEL SHIFTER 8-VSSOP; Manufacturer 1: Texas Instruments; tpd @ Nom Voltage(Max)(ns): 17.7,10.3,8.3,7.2; Logic: True; Rating: Military; ICC @ Nom Voltage(Max)(mA): 0.004; Bits(#): 2; 3-State Output: Yes; Schmitt Trigger: No; Technology Family: LVC; Sub-Family: Dual Supply Translator; Output Drive (IOL/IOH)(Max)(mA): 32/-32; Output Type: CMOS; VCC(Max)(V): 5.5; Input Type: CMOS/TTL; F @ Nom Voltage(Max)(Mhz): 150; VCC(Min)(V): 1.65; Voltage(Nom)(V): 1.8,2.5,3.3,5; PackageReference: DCU0008A; Generic Part Number: SN74LVC2T45; DatasheetVersion: SCES516J; Operating Temperature Range(C): -40 to 85; Supplier 1: Digi-Key; Supplier Part Number 1: 296-39213-2-ND; Manufacturer Part Number 1: SN74LVC2T45DCURG4; Mount: Surface Mount
footprint DCU0008A_L (SOP, 8-Leads, Body 2.4x2.1mm, Pitch 0.5mm, IPC High Density)
pins: 1 VCCA (power) "Supply Voltage A", 2 A1 (io) "Output or input depending on state of DIR. Output level depends on VCCA", 3 A2 (io) "Output or input depending on state of DIR. Output level depends on VCCA", 4 GND (power) "Ground", 5 DIR (in) "Direction Pin, Connect to GND or to VCCA", 6 B2 (io) "Output or input depending on state of DIR. Output level depends on VCCB.", 7 B1 (io) "Output or input depending on state of DIR. Output level depends on VCCB.", 8 VCCB (power) "Supply Voltage B"

## IC_LVL_SHIFTER_TI
designator U?, comment SN74LVC1T45QDCKRQ1
IC BIDIRECTIONAL LEVEL SHIFTER; Manufacturer 1: Texas Instruments; Data Rate: 420Mbps; Number of Channels: 1; Logic Function: Translator; Turn-On Delay Time: 6.9ns; High Level Output Current: -32mA; Low Level Output Current: 32mA; Quiescent Current: 10uA; Max Supply Voltage: 5.5V; Min Supply Voltage: 1.65V; Supplier 1: Digi-Key; Manufacturer Part Number 1: SN74LVC1T45QDCKRQ1; Stock 1: 7633; Pricing 1: 1=0.59000, 10=0.51500, 25=0.48360, 100=0.39470, 250=0.36660, 500=0.31200, 1000=0.24960 (USD); RoHS: Yes; Mount: Surface Mount; Case/Package: SC; Number of Pins: 6; Weight: 0.000988oz; Min Operating Temperature: -40°C; Max Operating Temperature: 125°C; Number of Bits: 1; Channel Type: Bidirectional; Number of Circuits: 1; Packaging: Tape and Reel; Propagation Delay: 6.9ns; Package Quantity: 3000; Radiation Hardening: No; Lead Free: Lead Free; REACH SVHC: No SVHC; ComponentLink1URL: https://datasheet.ciiva.com/6615/sn74lvc1t45-q1-6615008.pdf?src-supplier=Digi-Key; ComponentLink1Description: https://datasheet.ciiva.com/6615/sn74lvc1t45-q1-6615008.pdf?src-supplier=Digi-Key; ComponentLink2URL: https://datasheet.ciiva.com/12072/sces677b-213901-12072996.pdf?src-supplier=Mouser; ComponentLink2Description: https://datasheet.ciiva.com/12072/sces677b-213901-12072996.pdf?src-supplier=Mouser; ComponentLink3URL: https://datasheet.ciiva.com/15096/getdatasheetpartid-701994-15096516.pdf?src-supplier=Verical; ComponentLink3Description: https://datasheet.ciiva.com/15096/getdatasheetpartid-701994-15096516.pdf?src-supplier=Verical; ComponentLink4URL: https://datasheet.ciiva.com/29887/sn74lvc1t45-q1-29887614.pdf?src-supplier=Avnet; ComponentLink4Description: https://datasheet.ciiva.com/29887/sn74lvc1t45-q1-29887614.pdf?src-supplier=Avnet; Supplier Part Number 1: 296-39212-1-ND
footprint SOT65P210X110-6N
pins: 1 VCCA, 2 GND, 3 A (io), 4 B (io), 5 DIR (in), 6 VCCB

## IC_MOTOR_DRIVER_ST
designator U?  Manufacturer Part Number 1: VNH7070ASTR  (hidden comment: *)
IC H-BRIDGE MOTOR DRIVER 16-PINS STMicroelectronics VNH7070ASTR, SOIC; Logic Function: AND; Interface: PWM; Output Current: 15A; Supplier 1: Digi-Key; Manufacturer 1: STMicroelectronics; Stock 1: 2116; Pricing 1: 1=3.49000, 10=3.13200, 25=2.96120, 100=2.43460, 250=2.18456, 500=2.10560, 1000=1.75028 (USD); RoHS: No; Mount: Surface Mount; Case/Package: SOIC; Number of Pins: 16; Min Operating Temperature: -40°C; Max Operating Temperature: 150°C; Packaging: Tape and Reel; Lead Free: Lead Free; ComponentLink1URL: http://www.farnell.com/datasheets/2367755.pdf?src-supplier=Farnell; ComponentLink1Description: http://www.farnell.com/datasheets/2367755.pdf?src-supplier=Farnell; ComponentLink2URL: http://www.mouser.com/ds/2/389/vnh7070as-957633.pdf?src-supplier=Mouser; ComponentLink2Description: http://www.mouser.com/ds/2/389/vnh7070as-957633.pdf?src-supplier=Mouser; ComponentLink3URL: http://www.st.com/content/ccc/resource/sales_and_marketing/promotional_material/flyer/5d/08/7a/88/37/7b/43/7d/flm07hbrid.pdf/files/flm07hbrid.pdf/jcr:content/translations/en.flm07hbrid.pdf?src-supplier=Digi-Key; ComponentLink3Description: http://www.st.com/content/ccc/resource/sales_and_marketing/promotional_material/flyer/5d/08/7a/88/37/7b/43/7d/flm07hbrid.pdf/files/flm07hbrid.pdf/jcr:content/translations/en.flm07hbrid.pdf?src-supplier=Digi-Key; Supplier Part Number 1: 497-17630-1-ND
footprint SO-16N
pins: 1 GNDA (power) "Source of low-side switch A", 2 OUTA "Source of high-side switch A / drain of low-side switch A", 3 INA "Clockwise input", 4 VCC (power) "Power supply voltage", 5 VCC (power) "Power supply voltage", 6 INB "Counter clockwise input", 7 OUTB "Source of high-side switch B / drain of low-side switch B", 8 GNDB (power) "Source of low-side switch B", 9 GNDB (power) "Source of low-side switch B", 10 OUTB "Source of high-side switch B / drain of low-side switch B", 11 PWM "Voltage controlled input pin with hysteresis, CMOS compatible. Gates of low-side FETS get modulated by the PWM signal during their on phase allowing speed control of the motor", 12 VCC (power) "Power supply voltage", 13 CS "Multiplexed analog sense output pin; it delivers a current proportional to the motor current according to the leg selection.", 14 SEL0 "Active high compatible with 3 V and 5 V CMOS outputs pin; in combination with INA, INB, it addresses the CurrentSense information delivered to the micro according to the operative truth table.", 15 OUTA "Source of high-side switch A / drain of low-side switch A", 16 GNDA (power) "Source of low-side switch A"

## IC_USB_TRANSCEIVER
designator *
footprint SSOP-16
pins: 1 TXD, 2 RTS, 3 VCCIO, 4 RXD, 5 GND, 6 CTS, 7 CBUS2, 8 USBDP, 9 USBDM, 10 3V3OUT, 11 RESET, 12 VCC, 13 GND, 14 CBUS1, 15 CBUS0, 16 CBUS3

## INA226AIDGSR
designator U?
IC MONITOR PWR/CURR BIDIR 10MSOP; Manufacturer 1: Texas Instruments; Availability: Unavailable; Package: MSOP-10 Texas Instruments; Price: None; SnapEDA_Link: https://www.snapeda.com/parts/INA226AIDGSR/Texas%20Instruments/view-part/53552/?ref=snap; Manufacturer Part Number 1: INA226AIDGSR; Supplier 1: Digi-Key; Supplier Part Number 1: 296-29034-6-ND; Mount: Surface Mount
footprint INA226AIDGSR
pins: 1 A1 (in), 2 A0 (in), 3 ALERT (out), 4 SDA (io), 5 SCL (in), 6 VS (power), 7 GND (power), 8 VBUS (power), 9 IN- (in), 10 IN+ (in)

## JUMPER_2
designator J?
HEADER 2X1; Manufacturer 1: TE Connectivity; Manufacturer Part Number 1: 87220-2; Supplier 1: Digi-Key; Supplier Part Number 1: A26542-ND; Mount: Through Hole
footprint HDR1X2 (Connector; Header; 2 Position)
pins: 1, 2

## LDO_1.8V_250mA
designator U?
IC REG LINEAR 1.8V 250MA SOT23-5; Manufacturer Part Number 1: LP5907MFX-1.8/NOPB; Manufacturer 1: Texas Instruments; Current Output: 250mA; Supplier Part Number 1: 296-41463-1-ND; Supplier 1: Digi-Key; Mount: Surface Mount
footprint LP5907MFX-1.8/NOPB
pins: 1 IN, 2 GND, 3 EN, 4 N/C, 5 OUT

## LDO_3.3V_1A
designator U?, comment TPS73733DCQR
IC REG LINEAR 3.3V 1A SOT223-6; Manufacturer: Texas Instruments; Fixed Output Options(V): 3.3; Vdo(Typ)(mV): 130; Iout(Max)(A): 1; Accuracy(%): 3; SubFamily: Single Channel LDO; Eco-Plan: Green (RoHS & no Sb/Br); Vin(Min)(V): 2.2; Vin(Max)(V): 5.5; Rating: Catalog; Iq(Typ)(mA): 0.3; PartNumber: TPS73733DCQR; DatasheetVersion: SBVS067O; PackageReference: DCQ0006A; ComponentLink3URL: http://www.ti.com/litv/pdf/mpds098c; ComponentLink2Description: Datasheet; PackageDescription: 6-Pin Plastic Small Outline, Body 3.5 x 6.5 mm, Pitch 1.27 mm; ComponentLink2URL: http://www.ti.com/general/docs/lit/getliterature.tsp?genericPartNumber=TPS73733&fileType=pdf; PackageVersion: 4202109/D; Vout Adj(Min)(V): 3.3; Vout Adj(Max)(V): 3.3; ComponentLink3Description: Package Specification; Mounting Technology: Surface Mount; ComponentLink1URL: http://www.ti.com/; ComponentLink1Description: Manufacturer URL; Supplier 1: Digi-Key; Supplier Part Number 1: 296-22681-2-ND; Manufacturer 1: Texas Instruments; Manufacturer Part Number 1: TPS73733DCQR
footprint SOT223-6 (SOT223, 6-Leads, Body 6.55x3.55mm, Pitch 1.27mm, IPC Low Density)
pins: 1 IN (power) "Unregulated input supply", 2 OUT (power) "Regulator output. A 1.0uF or larger capacitor of any type is required for stability.", 3 GND (power) "Ground", 4 NR "Fixed voltage versions only-connecting an external capacitor to this pin bypasses noise generated by the internal bandgap, reducing output noise to very low levels.", 5 EN (in) "Driving the enable pin (EN) high turns on the regulator. Driving this pin low puts the regulator into shutdown mode.EN must not be left floating and can be connected to IN if not used.", 6 GND (power) "Ground"

## LED_RGB
designator D?  Manufacturer Part Number 1: ASMB-MTB1-0A3A2
LED RGB DIFFUSED 4PLCC SMD; Manufacturer 1: Broadcom; Color: Blue,Green,Red; Lens Color: White; Viewing Angle: 115°; Lens Style: Round; Luminous Intensity: 350mcd; Dominant Wavelength: 470nm; Forward Voltage: 3.1V; Test Current: 20mA; Supplier 1: Digi-Key; Stock 1: 142531; Pricing 1: 1=0.60000, 10=0.47100, 100=0.30210, 500=0.25980, 1000=0.20059 (USD); RoHS: Yes; Mount: Surface Mount; Case/Package: PLCC; Number of Pins: 4; Packaging: Cut Tape; Lens Transparency: Diffused; Length: 3.2mm; Height: 1.9mm; Width: 2.8mm; REACH SVHC: No SVHC; ComponentLink1URL: http://www.farnell.com/datasheets/2111106.pdf?src-supplier=Farnell; ComponentLink1Description: http://www.farnell.com/datasheets/2111106.pdf?src-supplier=Farnell; ComponentLink2URL: https://docs.broadcom.com/docs/AV02-4194EN?src-supplier=Digi-Key; ComponentLink2Description: https://docs.broadcom.com/docs/AV02-4194EN?src-supplier=Digi-Key; ComponentLink3URL: http://www.farnell.com/datasheets/1801564.pdf?src-supplier=Element14; ComponentLink3Description: http://www.farnell.com/datasheets/1801564.pdf?src-supplier=Element14; ComponentLink4URL: http://www.farnell.com/datasheets/2111106.pdf?src-supplier=Newark; ComponentLink4Description: http://www.farnell.com/datasheets/2111106.pdf?src-supplier=Newark; Supplier Part Number 1: 516-3280-1-ND
footprint LED_RGB
pins: 1 11, 2 12, 3 10, 4 9

## LM2776
designator U?
IC REG CHARGE PUMP INV SOT23; Manufacturer Part Number 1: LM2776DBVR; Manufacturer 1: Texas Instruments; Supplier Part Number 1: 296-43957-1-ND; Supplier 1: Digi-Key; Mount: Surface Mount
footprint SOT23-6 (SOT23, 6-Leads, Body 3.05x1.75mm, Pitch 0.95mm, IPC Medium Density)
pins: 1 VOUT (power), 2 GND, 3 VIN (power), 4 EN (in), 5 C1+ (power), 6 C1- (power)

## LOGO
designator ?
UW Mars Rover Logo
footprint logo

## LT8641EUDC#PBF
designator U?
65V 3.5A STEP DOWN BUCK; Manufacturer 1: Linear Technology/Analog Devices; Manufacturer Part Number 1: LT8641EUDC#TRPBF; Supplier 1: Digi-Key; Supplier Part Number 1: LT8641EUDC#TRPBFCT-ND; Mount: Surface Mount
footprint LT8641EUDC#TRPBF (Buck Converter)
pins: 1 PG, 2 FB, 3 BIAS, 4 INTVCC, 5 BST, 6 VIN1, 7 GND1, 8 GND1, 9 SW, 10 SW, 11 GND, 12 SYNC/MODE, 13 TR/SS, 14 RT, 15 EN/UV, 16 VIN2, 17 GND2, 18 GND2, 19 SW, 20 SW
text: LT8641

## LTC2875
designator U?, comment IC TXRX CAN
IC TXRX CAN 4MBPS 8SO; Manufacturer 1: Linear Technologies; Manufacturer Part Number 1: LTC2875IS8#PBF; Package: 8-SOIC (0.154", 3.90mm Width); ComponentLink1Description: Datasheet; ComponentLink1URL: https://www.analog.com/media/en/technical-documentation/data-sheets/2875f.pdf; Supplier Part Number 1: LTC2875IS8#PBF-ND; Supplier 1: Digi-Key; Mount: Surface Mount
footprint LTC2875 (SOIC, 8-Leads, Body 5x4mm, Pitch 1.27mm, IPC Low Density)
footprint LT-S8_N (SOP, 8-Leads, Body 4.9x3.9mm, Pitch 1.27mm, IPC Medium Density)
pins: 1 TXD, 2 GND, 3 VCC, 4 RXD, 5 SPLIT, 6 CANL, 7 CANH, 8 RS

## MCP9701AT-E/TT
designator U?  Supplier 1: Digi-Key
IC THERMISTOR; Manufacturer 1: Microchip Technology; Manufacturer Part Number 1: MCP9701AT-E/TT; Supplier Part Number 1: MCP9701AT-E/TTTR-ND; Mount: Surface Mount
footprint MCP9701AT-E/TT
pins: 1 VDD (power), 2 VOUT (out), 3 GND (power)

## MOUNTING_HOLES
designator MH
6cm x 6cm
footprint MOUNTING_HOLE

## NE555DR
designator U?
555 TIMER 8-SOIC; PartNumber: NE555; Manufacturer 1: Texas Instruments; Digital IC Case Style: SOIC; Base Number: 555; Clock External Input: No; No. of Timers: 1; Supply Voltage Min: 4.5V; Operating Frequency Max: 0.5MHz; Supply Voltage Range: 4.5Vto16V; No. of Pins: 8; Supply Voltage Max: 16V; IC Temperature Range: Commercial; SVHC: NoSVHC(19-Dec-2012); Operating Mode: Astable,Monostable; Device Marking: NE555D; Frequency: 500kHz; Package Description: 8-Pin Small Outline Integrated Circuit, Body 4.9 x 3.9 mm, Pitch 1.27 mm; Datasheet URL: http://www.ti.com/general/docs/lit/getliterature.tsp?genericPartNumber=NE555&fileType=pdf; Mounting Technology: SurfaceMount; Operating Temperature Range: 0°Cto+70°C; Operating Temperature Min: 0°C; Package URL: http://www.ti.com/lit/ml/msoi002j/msoi002j.pdf; Datasheet Version: Rev. I, 09/2014; Manufacturer URL: http://www.ti.com/; Logic Function Number: 555; IC Generic Number: 555; No. of Channels: 1; Operating Temperature Max: 70°C; Package / Case: SOIC; Package Reference: D8; Supplier 1: Digi-Key; Supplier Part Number 1: 296-6501-1-ND; Mount: Surface Mount; Manufacturer Part Number 1: NE555DR
footprint 8-SOIC_M (SOIC, 8-Leads, Body 5x4mm, Pitch 1.27mm, IPC Low Density)
pins: 1 GND (power) "Ground", 2 TRIG (in) "Start of timing input.", 3 OUT (out) "High current timer output signal", 4 ~{RESET} (in) "Active low reset input forces output and discharge low.", 5 CONT (in) "Controls comparator thresholds, Outputs 2/3 VCC, allows bypass capacitor connection", 6 THRES (in) "End of timing input.", 7 DISCH (oc) "Open collector output to discharge timing capacitor", 8 VCC (power) "Input supply voltage, 4.5 V to 16 V."

## NMOS_20V_6A
designator Q?
MOSFET N-CH 20V 6A SOT23; Manufacturer Part Number 1: AO3420; Manufacturer 1: Alpha & Omega; Package: TO-236-3, SC-59, SOT-23-3; ComponentLink1Description: Datasheet; ComponentLink1URL: http://aosmd.com/res/data_sheets/AO3420.pdf; Supplier Part Number 1: 785-1014-1-ND; Supplier 1: Digi-Key; Mount: Surface Mount
simulation model NMOS (MOSFET-N)
footprint NMOS_SOT23-3 (SOT23, 3 pins, Body 2.90mm x 2.80mm)
pins: 1 G "gate", 2 S "source", 3 D "mounting base; connected to drain"

## NMOS_40V_75A
designator Q?
MOSFET N-CH 40V 75A D2PAK; Manufacturer Part Number 1: BUK768R1-40E,118; Manufacturer 1: Nexperia USA Inc.; Package: TO-263-3, D²Pak (2 Leads + Tab), TO-263AB; ComponentLink1Description: Datasheet; ComponentLink1URL: https://assets.nexperia.com/documents/data-sheet/BUK768R1-40E.pdf; Supplier 1: Digi-Key; Supplier Part Number 1: 1727-7257-1-ND; Mount: Surface Mount
simulation model NMOS (MOSFET-N)
footprint SOT404
pins: 1 G "gate", 3 S "source", 4 D "mounting base; connected to drain"

## NMOS_50V_200mA
designator Q?  Manufacturer Part Number 1: RUC002N05HZGT116  Id: 200mA  (hidden comment: *)
NMOS N-CH 50V 200mA 1.2V DRIVE SOT-23-3; Manufacturer 1: Rohm Semiconductor; Supplier 1: Digi-Key; Supplier Part Number 1: RUC002N05HZGT116CT-ND
footprint SOT23-3 (SOT23, 3-Leads, Body 2.90x2.30mm, Pitch 0.95mm, IPC Medium Density)
pins: 1 G "gate", 2 S "source", 3 D "mounting base; connected to drain"

## NMOS_60V_100A
designator Q?  (value not drawn)
MOSFET N-CHA 60V 100A DPAK; Manufacturer Part Number 1: DMTH6004SK3-13; Manufacturer 1: Diodes Incorporated; FET Type: N-Channel; Vgs (Max): 20V; Power Dissipation (Max): 180W; Supplier 1: Digi-Key; Supplier Part Number 1: DMTH6004SK3-13DICT-ND; Vdss: 60V; Id: 100A; Supplier Device Package: D-PAK (TO-252)
footprint D-PAK (TO-252AA)
pins: 1 Drain, 2 Gate, 3 Source